# Altium schematic symbol library IAUA250N04S6N005AUMA1.SchLib: 1 symbol
Pins are listed as number, name and electrical type; pins without a type are passive.

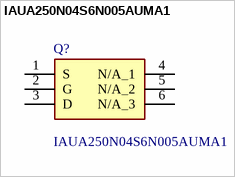
[diagram p0: symbol IAUA250N04S6N005AUMA1]

## IAUA250N04S6N005AUMA1
designator Q?
Automotive MOSFET N-channel  Enhancement mode  Normal Level; Manufacturer_Name: Infineon; Mouser Part Number: 726-IAUA250N04S6N005; Mouser Price/Stock: https://www.mouser.co.uk/ProductDetail/Infineon-Technologies/IAUA250N04S6N005AUMA1?qs=tlsG%2FOw5FFiFyiUcNA7TDQ%3D%3D; Manufacturer_Part_Number: IAUA250N04S6N005AUMA1; Datasheet Link: https://www.infineon.com/dgdl/Infineon-IAUA250N04S6N005-DataSheet-v01_00-EN.pdf?fileId=8ac78c8c7f2a768a017fac2a170d3f38
footprint IAUA250N04S6N005AUMA1
pins: 1 S, 2 G, 3 D, 4 N/A_1, 5 N/A_2, 6 N/A_3